# EAGLE library part WT11U-VISUAL (library jetney-silabs-modules)
Bluegiga WT11i class 1 Bluetooth 2.1 + EDR module. WT11i-A variant has an on-module ceramic chip antenna, WT11i-E variant has a U.Fl connector. WT11i-A variant includes keepout/restrict area. Antenna edge of the module should be flush up against the edge of the PCB. See datasheet for variant layout details. The WT11i is a fully integrated Bluetooth 2.1 + EDR, class 1 module combining antenna, Bluetooth radio, and an on-board iWRAP Bluetooth stack. Bluegiga's WT11i constitutes the ideal solution for developers that want to quickly integrate long-range and high-performance Bluetooth wireless technology into their design without investing several months in Bluetooth radio and stack development. It provides a 100dB link budget ensuring long range and robust Bluetooth connectivity and uses Bluegiga's iWRAP Bluetooth stack, which is an embedded Bluetooth stack implementing 13 different Bluetooth profiles and Apple iAP connectivity. By using WT11i combined with iWRAP Bluetooth stack and Bluegiga's excellent technical support, designers ensure quick time-to-market and low development costs and risks. http://www.bluegiga.com/en-US/products/bluetooth-classic-modules/wt11i-bluetooth-class-1-module https://github.com/jrowberg/sf-oshw Last updated 2014-01-04 by Jeff Rowberg <jeff@rowberg.net>
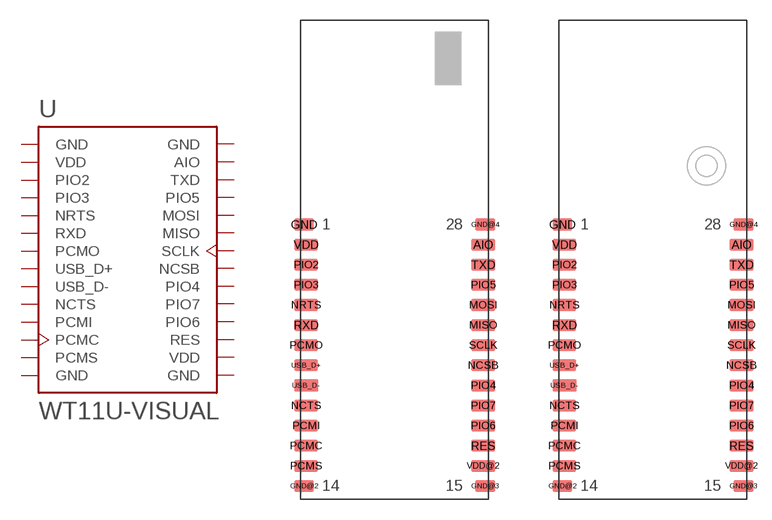
[diagram p7: symbol with the pads of WT11U-A; footprints WT11U-A, WT11U-E]

Designator prefix U

## WT11U-VISUAL-A (ANTENNA: On-module ceramic chip antenna)  [WT11U-A]
AIO  AIO
GND  GND  pwr
GND@2  GND  pwr
GND@3  GND  pwr
GND@4  GND  pwr
MISO  MISO  out
MOSI  MOSI  in
NCSB  NCSB  in
NCTS  NCTS  in
NRTS  NRTS  out
PCMC  PCMC
PCMI  PCMI  in
PCMO  PCMO  out
PCMS  PCMS
PIO2  PIO2
PIO3  PIO3
PIO4  PIO4
PIO5  PIO5
PIO6  PIO6
PIO7  PIO7
RES  RES  in
RXD  RXD  in
SCLK  SCLK  in
TXD  TXD  out
USB_D+  USB_D+
USB_D-  USB_D-
VDD  VDD  pwr
VDD@2  VDD  pwr

## WT11U-VISUAL-E (ANTENNA: U.Fl connector)  [WT11U-E]
Pads as for WT11U-A

## Footprint WT11U-A (pad centres in mm)
Bluegiga WT11i class 1 Bluetooth 2.1 + EDR module. WT11i-A variant has an on-module ceramic chip antenna. WT11i-A variant includes keepout/restrict area. Antenna edge of the module should be flush up against the edge of the PCB. See datasheet for variant layout details. The WT11i is a fully integrated Bluetooth 2.1 + EDR, class 1 module combining antenna, Bluetooth radio, and an on-board iWRAP Bluetooth stack. Bluegiga's WT11i constitutes the ideal solution for developers that want to quickly integrate long-range and high-performance Bluetooth wireless technology into their design without investing several months in Bluetooth radio and stack development. It provides a 100dB link budget ensuring long range and robust Bluetooth connectivity and uses Bluegiga's iWRAP Bluetooth stack, which is an embedded Bluetooth stack implementing 13 different Bluetooth profiles and Apple iAP connectivity. By using WT11i combined with iWRAP Bluetooth stack and Bluegiga's excellent technical support, designers ensure quick time-to-market and low development costs and risks. http://www.bluegiga.com/en-US/products/bluetooth-classic-modules/wt11i-bluetooth-class-1-module https://github.com/jrowberg/sf-oshw Last updated 2014-01-04 by Jeff Rowberg <jeff@rowberg.net>
smd 1.778 x 0.914: AIO 6.6,1.12; MISO 6.6,-4.88; MOSI 6.6,-3.38; NCSB 6.6,-7.88; NCTS -6.6,-10.88; NRTS -6.6,-3.38; PCMC -6.6,-13.88; PCMI -6.6,-12.38; PCMO -6.6,-6.38; PCMS -6.6,-15.38; PIO2 -6.6,-0.38; PIO3 -6.6,-1.88; PIO4 6.6,-9.38; PIO5 6.6,-1.88; PIO6 6.6,-12.38; PIO7 6.6,-10.88; RES 6.6,-13.88; RXD -6.6,-4.88; SCLK 6.6,-6.38; TXD 6.6,-0.38; USB_D+ -6.6,-7.88; USB_D- -6.6,-9.38; VDD -6.6,1.12; VDD@2 6.6,-15.38
smd 1.478 x 0.914: GND -6.75,2.62; GND@2 -6.75,-16.88; GND@3 6.75,-16.88; GND@4 6.75,2.62

## Footprint WT11U-E (pad centres in mm)
Bluegiga WT11i class 1 Bluetooth 2.1 + EDR module. WT11i-E variant has a U.Fl connector for RF output. See datasheet for variant layout details. The WT11i is a fully integrated Bluetooth 2.1 + EDR, class 1 module combining antenna, Bluetooth radio, and an on-board iWRAP Bluetooth stack. Bluegiga's WT11i constitutes the ideal solution for developers that want to quickly integrate long-range and high-performance Bluetooth wireless technology into their design without investing several months in Bluetooth radio and stack development. It provides a 100dB link budget ensuring long range and robust Bluetooth connectivity and uses Bluegiga's iWRAP Bluetooth stack, which is an embedded Bluetooth stack implementing 13 different Bluetooth profiles and Apple iAP connectivity. By using WT11i combined with iWRAP Bluetooth stack and Bluegiga's excellent technical support, designers ensure quick time-to-market and low development costs and risks. http://www.bluegiga.com/en-US/products/bluetooth-classic-modules/wt11i-bluetooth-class-1-module https://github.com/jrowberg/sf-oshw Last updated 2014-01-04 by Jeff Rowberg <jeff@rowberg.net>
smd 1.778 x 0.914: AIO 6.6,1.12; MISO 6.6,-4.88; MOSI 6.6,-3.38; NCSB 6.6,-7.88; NCTS -6.6,-10.88; NRTS -6.6,-3.38; PCMC -6.6,-13.88; PCMI -6.6,-12.38; PCMO -6.6,-6.38; PCMS -6.6,-15.38; PIO2 -6.6,-0.38; PIO3 -6.6,-1.88; PIO4 6.6,-9.38; PIO5 6.6,-1.88; PIO6 6.6,-12.38; PIO7 6.6,-10.88; RES 6.6,-13.88; RXD -6.6,-4.88; SCLK 6.6,-6.38; TXD 6.6,-0.38; USB_D+ -6.6,-7.88; USB_D- -6.6,-9.38; VDD -6.6,1.12; VDD@2 6.6,-15.38
smd 1.478 x 0.914: GND -6.75,2.62; GND@2 -6.75,-16.88; GND@3 6.75,-16.88; GND@4 6.75,2.62